# Altium schematic symbol library TwoLayerDriverSchlib.SchLib: 16 symbols
Pins are listed as number, name and electrical type; pins without a type are passive.

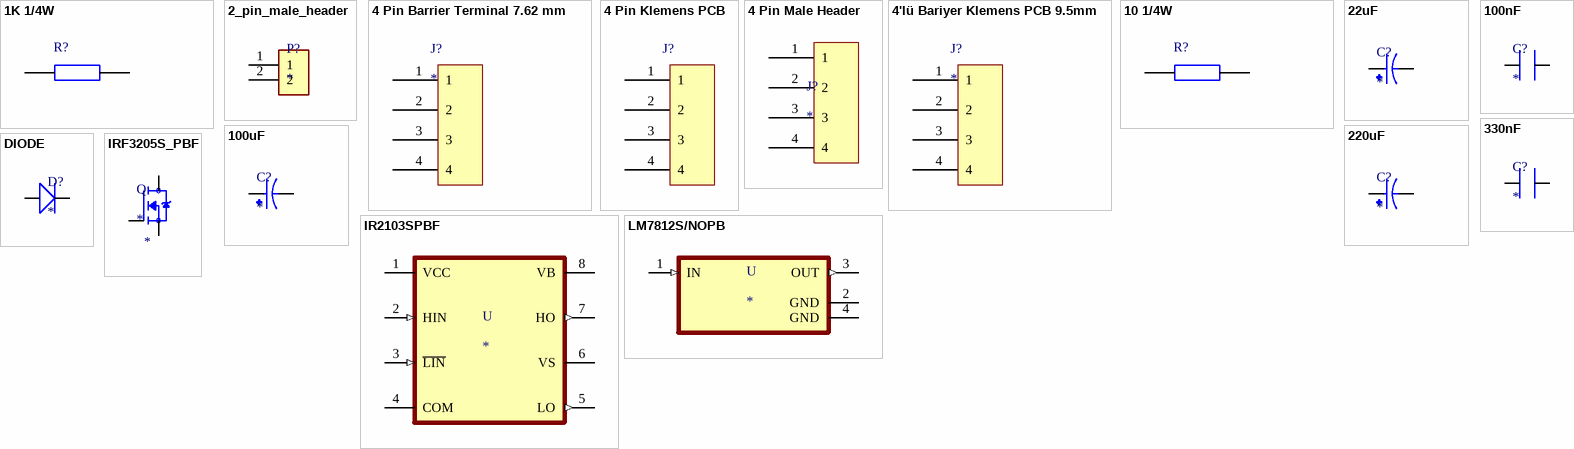
[diagram p0: symbols 1K 1/4W to LM7812S/NOPB]

## 1K 1/4W
designator R?, comment CRCW12061K00FKEAHP
1K 1/4W 1206 RESISTOR       CRCW Power Resistor 1206 0.5W 1K 1% Vishay CRCW Series Thick Film High Power Surface Mount Resistor 1206 Case 1k +/-1% 0.5W +/-100ppm/K; Geometry.Height: 0.65mm; Mouser Part Number: 71-CRCW12061K00FKEAH; Mouser Price/Stock: https://www.mouser.co.uk/ProductDetail/Vishay-Dale/CRCW12061K00FKEAHP?qs=AuiXZzjRd4VaQJAN1hHm0g%3D%3D; Manufacturer_Name: Vishay; Manufacturer_Part_Number: CRCW12061K00FKEAHP; Datasheet Link: http://componentsearchengine.com/Datasheets/1/CRCW12061K00FKEAHP.pdf
footprint 1206 PACKAGE (PACKAGE FOR RESISTOR AND CAPACITOR)
pins: 1, 2

## 2_pin_male_header
designator P?
TERM BLOCK 5.08MM 2POS SIDE ENTY; MP: 282837-2; Value: *; Availability: Unavailable; Price: None; Package: None
footprint 2_pin_male_header (TE_282837-2)
pins: 1, 2

## 4 Pin Barrier Terminal 7.62 mm
designator J?
Designed By: Bora
footprint 4 PIN BARRIER TERMINAL 7.62 mm
pins: 1, 2, 3, 4

## 4 Pin Klemens PCB
designator J?  (value not drawn)
Designed By: Bora
footprint 4pin Terminal
pins: 1, 2, 3, 4

## 4 Pin Male Header
designator J?
Designed By: Bora
footprint 4 Pin Male Header
pins: 1, 2, 3, 4

## 4'lü Bariyer Klemens PCB 9.5mm
designator J?
Designed By: Bora
footprint 4 Pin Barrier Terminal
pins: 1, 2, 3, 4

## 10 1/4W
designator R?, comment CRCW12061K00FKEAHP
10R 1/4W 1206 RESISTOR_1 CRCW Power Resistor 1206 0.5W 1K 1% Vishay CRCW Series Thick Film High Power Surface Mount Resistor 1206 Case 1k +/-1% 0.5W +/-100ppm/K; Geometry.Height: 0.65mm; Mouser Part Number: 71-CRCW12061K00FKEAH; Mouser Price/Stock: https://www.mouser.co.uk/ProductDetail/Vishay-Dale/CRCW12061K00FKEAHP?qs=AuiXZzjRd4VaQJAN1hHm0g%3D%3D; Manufacturer_Name: Vishay; Manufacturer_Part_Number: CRCW12061K00FKEAHP; Datasheet Link: http://componentsearchengine.com/Datasheets/1/CRCW12061K00FKEAHP.pdf
footprint 1206 PACKAGE (PACKAGE FOR RESISTOR AND CAPACITOR)
pins: 1, 2

## 22uF
designator C?
CAP ALUM 22UF 20% 50V SMD; Urun kodu: EEEFN1H220UR; MF: Panasonic Electronic Components; MP: EEE-FN1H220UR; SnapEDA_Link: https://www.snapeda.com/parts/EEE-FN1H220UR/Panasonic/view-part/6178088/?ref=snap; Check_prices: https://www.snapeda.com/parts/EEE-FN1H220UR/Panasonic/view-part/6178088/?ref=eda; Purchase-URL: https://pricing.snapeda.com/search/part/EEE-FN1H220UR/?ref=eda; Price: None; Availability: In Stock; Package: RADIAL-2 Panasonic
footprint 22uF-50V_CAP_EEEFN1H220UR (22uF 50V electrolytic smd kondansator)
pins: 1, 2

## 100nF
designator C?
100nF 50V seramic capacitor 1206 package
footprint 1206 PACKAGE (PACKAGE FOR RESISTOR AND CAPACITOR)
pins: 1, 2

## 100uF
designator C?
CAP ALUM 100UF 20% 50V SMD    EEEFN1H101L; MP: EEE-FN1H101L; MF: Panasonic Electronic Components; Value: *; SnapEDA_Link: https://www.snapeda.com/parts/EEE-FN1H101L/Panasonic/view-part/6178263/?ref=snap; Availability: In Stock; Package: RADIAL-2 Panasonic; Purchase-URL: https://pricing.snapeda.com/search/part/EEE-FN1H101L/?ref=eda; Price: None; Check_prices: https://www.snapeda.com/parts/EEE-FN1H101L/Panasonic/view-part/6178263/?ref=eda
footprint 100uF (100uF 50V capacitor)
pins: 1, 2

## 220uF
designator C?
CAP ALUM 220UF 20% 50V SMD; MF: Panasonic; Urun adi: EEEFP1H221AL; Check_prices: https://www.snapeda.com/parts/EEEFP1H221AL/Panasonic/view-part/5797279/?ref=eda; SnapEDA_Link: https://www.snapeda.com/parts/EEEFP1H221AL/Panasonic/view-part/5797279/?ref=snap; Availability: In Stock; Price: None; MP: EEEFP1H221AL; Package: RADIAL-2 Panasonic
footprint 220uF (220uF_50V_smd_capacitor)
pins: 1, 2

## 330nF
designator C?
330nF 50V seramic capacitor 1206 package
footprint 1206 PACKAGE (PACKAGE FOR RESISTOR AND CAPACITOR)
pins: 1, 2

## DIODE
designator D?
Diode Standard 1000 V 1A Surface Mount SMB / https://www.digikey.si/en/products/detail/diodes-incorporated/FR1M-13/743555
footprint FR1M-13 (1000V 1A DIODE)
pins: 1, 2

## IR2103SPBF
designator U
Floating channel designed for bootstrap operation | Fully operational to +600 V | Tolerant to negative transient voltage | dV/dt immune | Gate drive supply range from 10 to 20 V | Undervoltage lockout | 3.3 V, 5 V, and 15 V logic input compatible | Cross-conduction prevention logic | Matched propagation delay for both channels | Internal set deadtime | High side output in phase with HIN input | Low side output out of phase with LIN input; MF: Infineon; MP: IR2103SPBF; Price: None; SnapEDA_Link: https://www.snapeda.com/parts/IR2103SPBF/Infineon%20Technologies/view-part/576530/?ref=snap; Availability: Unavailable; Package: SOIC-8 Infineon
footprint 2103SMD-8SOIC
pins: 1 VCC (power), 2 HIN (in), 3 ~{LIN} (in), 4 COM, 5 LO (out), 6 VS (power), 7 HO (out), 8 VB (power)

## IRF3205S_PBF
designator Q
RoHS Compliant | Low RDS_on_ | Industry-leading quality | Dynamic dv/dt Rating | Fast Switching | Fully Avalanche Rated | 175C Operating Temperature; MF: Infineon Technologies; MP: IRF3205SPBF; Package: D2PAK Infineon; Price: None; SnapEDA_Link: https://www.snapeda.com/parts/IRF3205SPBF/Infineon%20Technologies/view-part/576468/?ref=snap; Availability: Unavailable; Value: *
footprint 3205pbf
pins: 1 G, 2 D, 3 S

## LM7812S/NOPB
designator U
1.5-A, 30-V, linear voltage regulator 3-DDPAK/TO-263 0 to 125; MF: Texas Instruments; MP: LM7812S/NOPB; Mouser-Purchase-URL: https://snapeda.com/shop?store=Mouser&id=559615; Value: *; Arrow_Electronics-Purchase-URL: https://snapeda.com/shop?store=Arrow+Electronics&id=559615; Price: None; Availability: Unavailable; DigiKey-Purchase-URL: https://snapeda.com/shop?store=DigiKey&id=559615; Texas_Instruments-Purchase-URL: https://snapeda.com/shop?store=Texas+Instruments&id=559615; SnapEDA_Link: https://www.snapeda.com/parts/LM7812S/NOPB/Texas%20Instruments/view-part/559615/?ref=snap; Package: TO-263-3 Texas Instruments
footprint lm7812
pins: 1 IN (in), 2 GND (power), 3 OUT (out), 4 GND (power)